# Altium integrated library Analog Devices Data Converters Digital-to-Analog Converters.IntLib: 2231 symbols (part 141 of 181)
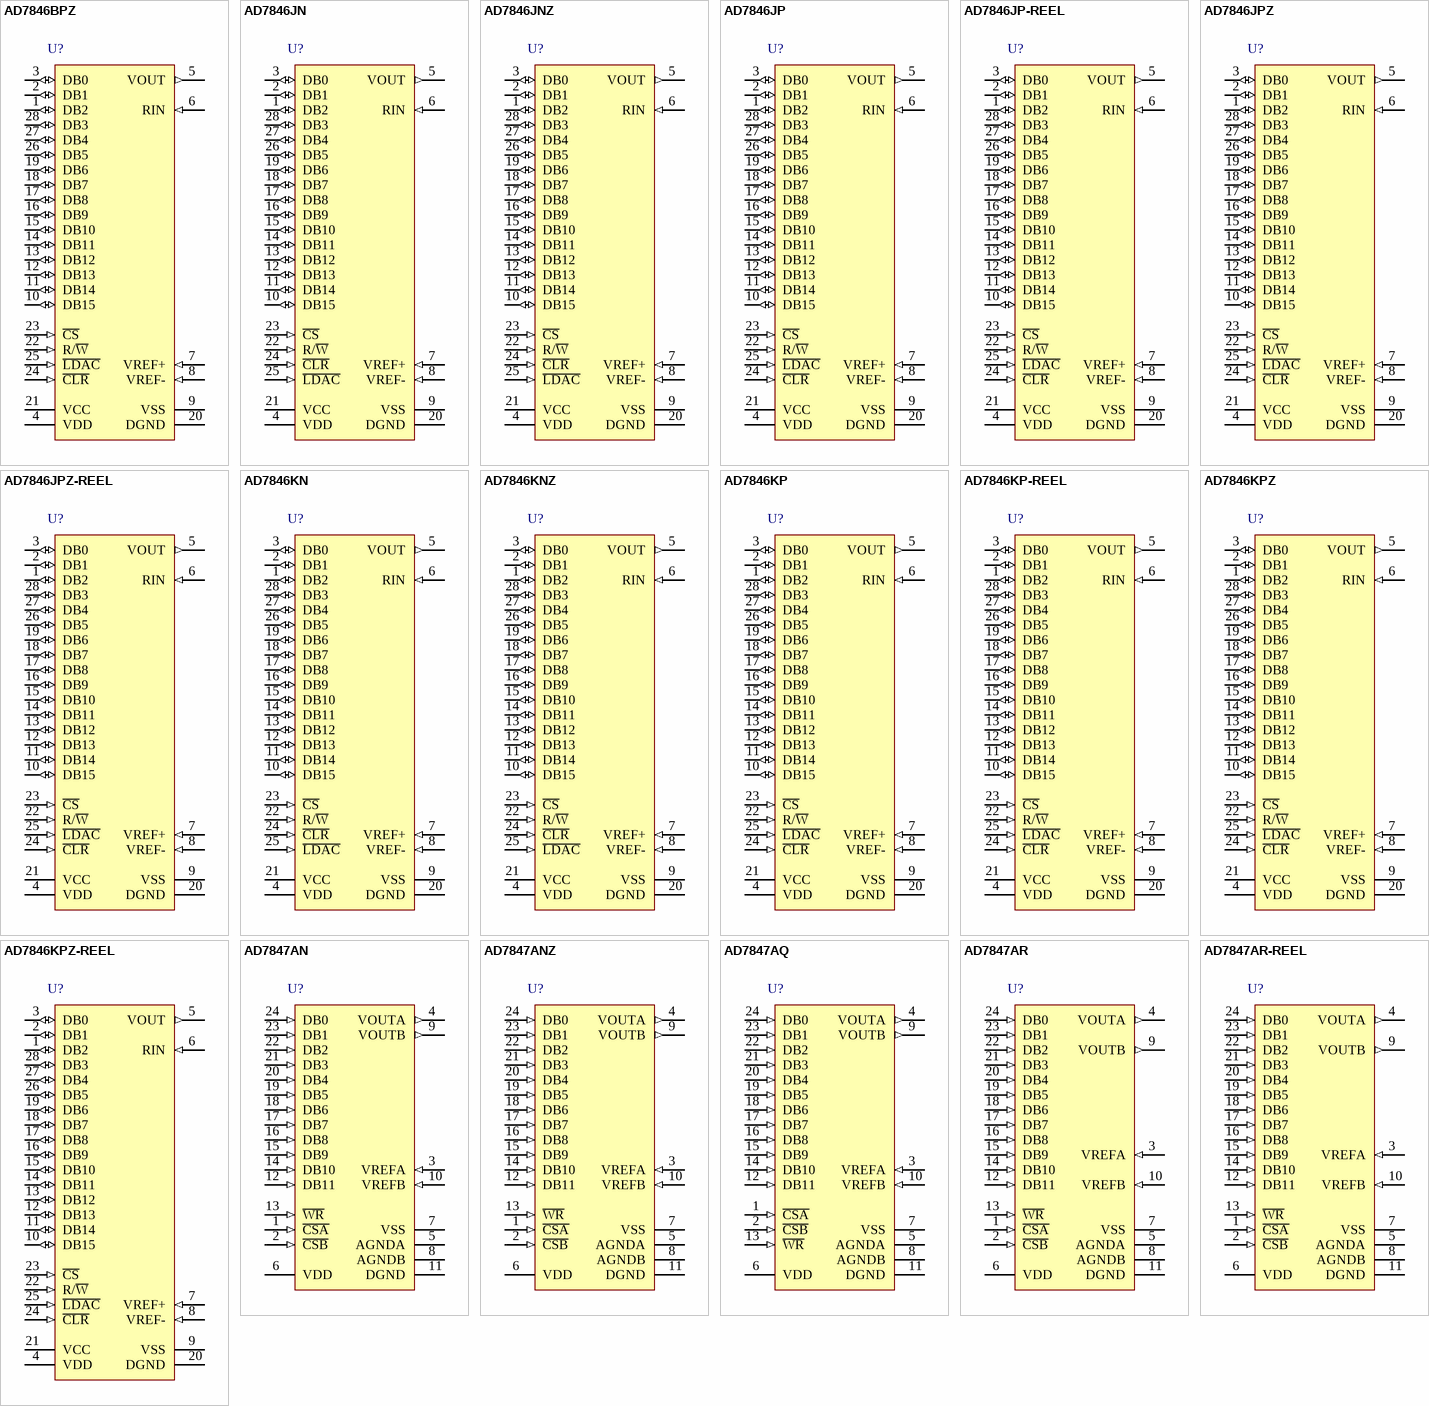
[diagram p254: symbols AD7846BPZ to AD7847AR-REEL]

## AD7846BPZ
designator U?
Single 16-Bit LC2MOS Voltage Output Digital-to-Analog Converter, -40 to +85 degC, P-28, Pb-Free, Tube; Generic Part Number: AD7846; Manufacturer: Analog Devices; PartNumber: AD7846BPZ; # DAC Outputs: 1; Max V+: 15.75V; Op Pwr Diss: 155mW; Resolution (Bits): 16; Settling Time: 7µs; Single Supply: No; DatasheetVersion: Rev.G; PackageVersion: 042508-A; PackageReference: P-28; PackageDescription: 28-Lead Plastic Leaded Chip Carrier [PLCC]; Supplier 1: Digi-Key; Supplier Part Number 1: AD7846BPZ-ND; Supplier 2: Mouser; Supplier Part Number 2: 584-AD7846BPZ; Packing: Tube; RoHS: Y; Mounting Technology: Surface Mount; Code_JEDEC: MO-047-AB; ComponentLink1Description: Manufacturer URL; ComponentLink1URL: http://www.analog.com/en/index.html; ComponentLink2Description: Datasheet; ComponentLink2URL: http://www.analog.com/static/imported-files/data_sheets/AD7846.pdf; ComponentLink3Description: Package Specification; ComponentLink3URL: http://www.analog.com/static/imported-files/packages/PKG_PDF/PLCC(P)/P_28.pdf; ComponentLink4Description: Product URL; ComponentLink4URL: http://www.analog.com/en/digital-to-analog-converters/da-converters/ad7846/products/product.html
footprint P-28_N (Leaded Chip Carrier, 28-Leads, Body 11.5x11.5mm, Pitch 1.27mm, IPC Medium Density)
footprint P-28_L (Leaded Chip Carrier, 28-Leads, Body 11.5x11.5mm, Pitch 1.27mm, IPC High Density)
footprint P-28_M (Leaded Chip Carrier, 28-Leads, Body 11.5x11.5mm, Pitch 1.27mm, IPC Low Density)
pins: 1 DB2 (io) "Data I/O.", 2 DB1 (io) "Data I/O.", 3 DB0 (io) "DB0 is LSB.", 4 VDD (power) "Positive Supply for Analog Circuitry. This is +15 V nominal.", 5 VOUT (out) "DAC Output Voltage.", 6 RIN (in) "Input to Summing Resistor of DAC Output Amplifier. This is used to select output voltage ranges. See Table 6.", 7 VREF+ (in) "VREF+ Input. The DAC is specified for VREF+ = +5 V.", 8 VREF- (in) "VREF- Input. For unipolar operation connect VREF- to 0 V, and for bipolar operation connect it to -5 V. The device is specified for both conditions.", 9 VSS (power) "Negative Supply for the Analog Circuitry. This is -15 V nominal", 10 DB15 (io) "DB15 is MSB.", 11 DB14 (io) "Data I/O.", 12 DB13 (io) "Data I/O.", 13 DB12 (io) "Data I/O.", 14 DB11 (io) "Data I/O.", 15 DB10 (io) "Data I/O.", 16 DB9 (io) "Data I/O.", 17 DB8 (io) "Data I/O.", 18 DB7 (io) "Data I/O.", 19 DB6 (io) "Data I/O.", 20 DGND (power) "Ground for Digital Circuitry.", 21 VCC (power) "Positive Supply for Digital Circuitry. This is +5 V nominal.", 22 R/~{W} (in) "R/W\ Input. This pin can be used to load data to the DAC or to read back the DAC latch contents.", 23 ~{CS} (in) "Chip Select Input. This pin selects the device.", 24 ~{CLR} (in) "Clear Input. The DAC can be cleared to 000...000 or 100...000. See Table 7.", 25 ~{LDAC} (in) "Asynchronous Load Input to DAC.", 26 DB5 (io) "Data I/O.", 27 DB4 (io) "Data I/O.", 28 DB3 (io) "Data I/O."

## AD7846JN
designator U?
Single 16-Bit LC2MOS Voltage Output Digital-to-Analog Converter, 0 to +70 degC, N-28-2, Tube; Generic Part Number: AD7846; Manufacturer: Analog Devices; PartNumber: AD7846JN; # DAC Outputs: 1; Max V+: 15.75V; Op Pwr Diss: 155mW; Resolution (Bits): 16; Settling Time: 7µs; Single Supply: No; DatasheetVersion: Rev.G; PackageVersion: 071006-A; PackageReference: N-28-2; PackageDescription: 28-Lead Plastic Dual In-Line Package [PDIP]; Supplier 1: Digi-Key; Supplier Part Number 1: AD7846JN-ND; Supplier 2: Mouser; Supplier Part Number 2: 584-AD7846JN; Packing: Tube; RoHS: N; Mounting Technology: Through Hole; Code_JEDEC: MS-011; ComponentLink1Description: Manufacturer URL; ComponentLink1URL: http://www.analog.com/en/index.html; ComponentLink2Description: Datasheet; ComponentLink2URL: http://www.analog.com/static/imported-files/data_sheets/AD7846.pdf; ComponentLink3Description: Package Specification; ComponentLink3URL: http://www.analog.com/static/imported-files/packages/50849324123784N_28_2.pdf; ComponentLink4Description: Product URL; ComponentLink4URL: http://www.analog.com/en/digital-to-analog-converters/da-converters/ad7846/products/product.html
footprint N-28-2 (DIP, 28-Leads, Row Spacing 15.55mm, Pitch 2.54mm, Body 37.4x13.5mm)
pins: 1 DB2 (io) "Data I/O.", 2 DB1 (io) "Data I/O.", 3 DB0 (io) "Data I/O. DB0 is LSB.", 4 VDD (power) "Positive Supply for Analog Circuitry. This is +15 V nominal.", 5 VOUT (out) "DAC Output Voltage.", 6 RIN (in) "Input to Summing Resistor of DAC Output Amplifier. This is used to select output voltage ranges. See Table 6.", 7 VREF+ (in) "VREF+ Input. The DAC is specified for VREF+ = +5 V.", 8 VREF- (in) "VREF- Input. For unipolar operation connect VREF- to 0 V, and for bipolar operation connect it to -5 V. The device is specified for both conditions.", 9 VSS (power) "Negative Supply for the Analog Circuitry. This is -15 V nominal.", 10 DB15 (io) "Data I/O. DB0 is LSB.", 11 DB14 (io) "Data I/O.", 12 DB13 (io) "Data I/O.", 13 DB12 (io) "Data I/O.", 14 DB11 (io) "Data I/O.", 15 DB10 (io) "Data I/O.", 16 DB9 (io) "Data I/O.", 17 DB8 (io) "Data I/O.", 18 DB7 (io) "Data I/O.", 19 DB6 (io) "Data I/O.", 20 DGND (power) "Ground for Digital Circuitry.", 21 VCC (power) "Positive Supply for Digital Circuitry. This is +5 V nominal.", 22 R/~{W} (in) "R/W\ Input. This pin can be used to load data to the DAC or to read back the DAC latch contents.", 23 ~{CS} (in) "Chip Select Input. This pin selects the device.", 24 ~{CLR} (in) "Clear Input. The DAC can be cleared to 000...000 or 100...000. See Table 7.", 25 ~{LDAC} (in) "Asynchronous Load Input to DAC.", 26 DB5 (io) "Data I/O.", 27 DB4 (io) "Data I/O.", 28 DB3 (io) "Data I/O."

## AD7846JNZ
designator U?
Single 16-Bit LC2MOS Voltage Output Digital-to-Analog Converter, 0 to +70 degC, N-28-2, Pb-Free, Tube; Generic Part Number: AD7846; Manufacturer: Analog Devices; PartNumber: AD7846JNZ; # DAC Outputs: 1; Max V+: 15.75V; Op Pwr Diss: 155mW; Resolution (Bits): 16; Settling Time: 7µs; Single Supply: No; DatasheetVersion: Rev.G; PackageVersion: 071006-A; PackageReference: N-28-2; PackageDescription: 28-Lead Plastic Dual In-Line Package [PDIP]; Supplier 1: Digi-Key; Supplier Part Number 1: AD7846JNZ-ND; Supplier 2: Farnell; Supplier Part Number 2: 1438625; Supplier 3: Newark; Supplier Part Number 3: 15P0885; Supplier 4: Newark; Supplier Part Number 4: 59K5657; Supplier 5: Mouser; Supplier Part Number 5: 584-AD7846JNZ; Packing: Tube; RoHS: Y; Mounting Technology: Through Hole; Code_JEDEC: MS-011; ComponentLink1Description: Manufacturer URL; ComponentLink1URL: http://www.analog.com/en/index.html; ComponentLink2Description: Datasheet; ComponentLink2URL: http://www.analog.com/static/imported-files/data_sheets/AD7846.pdf; ComponentLink3Description: Package Specification; ComponentLink3URL: http://www.analog.com/static/imported-files/packages/50849324123784N_28_2.pdf; ComponentLink4Description: Product URL; ComponentLink4URL: http://www.analog.com/en/digital-to-analog-converters/da-converters/ad7846/products/product.html
footprint N-28-2 (DIP, 28-Leads, Row Spacing 15.55mm, Pitch 2.54mm, Body 37.4x13.5mm)
pins: 1 DB2 (io) "Data I/O.", 2 DB1 (io) "Data I/O.", 3 DB0 (io) "Data I/O. DB0 is LSB.", 4 VDD (power) "Positive Supply for Analog Circuitry. This is +15 V nominal.", 5 VOUT (out) "DAC Output Voltage.", 6 RIN (in) "Input to Summing Resistor of DAC Output Amplifier. This is used to select output voltage ranges. See Table 6.", 7 VREF+ (in) "VREF+ Input. The DAC is specified for VREF+ = +5 V.", 8 VREF- (in) "VREF- Input. For unipolar operation connect VREF- to 0 V, and for bipolar operation connect it to -5 V. The device is specified for both conditions.", 9 VSS (power) "Negative Supply for the Analog Circuitry. This is -15 V nominal.", 10 DB15 (io) "Data I/O. DB0 is LSB.", 11 DB14 (io) "Data I/O.", 12 DB13 (io) "Data I/O.", 13 DB12 (io) "Data I/O.", 14 DB11 (io) "Data I/O.", 15 DB10 (io) "Data I/O.", 16 DB9 (io) "Data I/O.", 17 DB8 (io) "Data I/O.", 18 DB7 (io) "Data I/O.", 19 DB6 (io) "Data I/O.", 20 DGND (power) "Ground for Digital Circuitry.", 21 VCC (power) "Positive Supply for Digital Circuitry. This is +5 V nominal.", 22 R/~{W} (in) "R/W\ Input. This pin can be used to load data to the DAC or to read back the DAC latch contents.", 23 ~{CS} (in) "Chip Select Input. This pin selects the device.", 24 ~{CLR} (in) "Clear Input. The DAC can be cleared to 000...000 or 100...000. See Table 7.", 25 ~{LDAC} (in) "Asynchronous Load Input to DAC.", 26 DB5 (io) "Data I/O.", 27 DB4 (io) "Data I/O.", 28 DB3 (io) "Data I/O."

## AD7846JP
designator U?
Single 16-Bit LC2MOS Voltage Output Digital-to-Analog Converter, 0 to +70 degC, P-28, Tube; Generic Part Number: AD7846; Manufacturer: Analog Devices; PartNumber: AD7846JP; # DAC Outputs: 1; Max V+: 15.75V; Op Pwr Diss: 155mW; Resolution (Bits): 16; Settling Time: 7µs; Single Supply: No; DatasheetVersion: Rev.G; PackageVersion: 042508-A; PackageReference: P-28; PackageDescription: 28-Lead Plastic Leaded Chip Carrier [PLCC]; Supplier 1: Digi-Key; Supplier Part Number 1: AD7846JP-ND; Supplier 2: Newark; Supplier Part Number 2: 66F5886; Supplier 3: Mouser; Supplier Part Number 3: 584-AD7846JP; Packing: Tube; RoHS: N; Mounting Technology: Surface Mount; Code_JEDEC: MO-047-AB; ComponentLink1Description: Manufacturer URL; ComponentLink1URL: http://www.analog.com/en/index.html; ComponentLink2Description: Datasheet; ComponentLink2URL: http://www.analog.com/static/imported-files/data_sheets/AD7846.pdf; ComponentLink3Description: Package Specification; ComponentLink3URL: http://www.analog.com/static/imported-files/packages/PKG_PDF/PLCC(P)/P_28.pdf; ComponentLink4Description: Product URL; ComponentLink4URL: http://www.analog.com/en/digital-to-analog-converters/da-converters/ad7846/products/product.html
footprint P-28_N (Leaded Chip Carrier, 28-Leads, Body 11.5x11.5mm, Pitch 1.27mm, IPC Medium Density)
footprint P-28_L (Leaded Chip Carrier, 28-Leads, Body 11.5x11.5mm, Pitch 1.27mm, IPC High Density)
footprint P-28_M (Leaded Chip Carrier, 28-Leads, Body 11.5x11.5mm, Pitch 1.27mm, IPC Low Density)
pins: 1 DB2 (io) "Data I/O.", 2 DB1 (io) "Data I/O.", 3 DB0 (io) "DB0 is LSB.", 4 VDD (power) "Positive Supply for Analog Circuitry. This is +15 V nominal.", 5 VOUT (out) "DAC Output Voltage.", 6 RIN (in) "Input to Summing Resistor of DAC Output Amplifier. This is used to select output voltage ranges. See Table 6.", 7 VREF+ (in) "VREF+ Input. The DAC is specified for VREF+ = +5 V.", 8 VREF- (in) "VREF- Input. For unipolar operation connect VREF- to 0 V, and for bipolar operation connect it to -5 V. The device is specified for both conditions.", 9 VSS (power) "Negative Supply for the Analog Circuitry. This is -15 V nominal", 10 DB15 (io) "DB15 is MSB.", 11 DB14 (io) "Data I/O.", 12 DB13 (io) "Data I/O.", 13 DB12 (io) "Data I/O.", 14 DB11 (io) "Data I/O.", 15 DB10 (io) "Data I/O.", 16 DB9 (io) "Data I/O.", 17 DB8 (io) "Data I/O.", 18 DB7 (io) "Data I/O.", 19 DB6 (io) "Data I/O.", 20 DGND (power) "Ground for Digital Circuitry.", 21 VCC (power) "Positive Supply for Digital Circuitry. This is +5 V nominal.", 22 R/~{W} (in) "R/W\ Input. This pin can be used to load data to the DAC or to read back the DAC latch contents.", 23 ~{CS} (in) "Chip Select Input. This pin selects the device.", 24 ~{CLR} (in) "Clear Input. The DAC can be cleared to 000...000 or 100...000. See Table 7.", 25 ~{LDAC} (in) "Asynchronous Load Input to DAC.", 26 DB5 (io) "Data I/O.", 27 DB4 (io) "Data I/O.", 28 DB3 (io) "Data I/O."

## AD7846JP-REEL
designator U?
Single 16-Bit LC2MOS Voltage Output Digital-to-Analog Converter, 0 to +70 degC, P-28, Reel; Generic Part Number: AD7846; Manufacturer: Analog Devices; PartNumber: AD7846JP-REEL; # DAC Outputs: 1; Max V+: 15.75V; Op Pwr Diss: 155mW; Resolution (Bits): 16; Settling Time: 7µs; Single Supply: No; DatasheetVersion: Rev.G; PackageVersion: 042508-A; PackageReference: P-28; PackageDescription: 28-Lead Plastic Leaded Chip Carrier [PLCC]; Supplier 1: Digi-Key; Supplier Part Number 1: AD7846JP-REEL-ND; Supplier 2: Mouser; Supplier Part Number 2: 584-AD7846JP-R; Packing: Reel; RoHS: N; Mounting Technology: Surface Mount; Code_JEDEC: MO-047-AB; ComponentLink1Description: Manufacturer URL; ComponentLink1URL: http://www.analog.com/en/index.html; ComponentLink2Description: Datasheet; ComponentLink2URL: http://www.analog.com/static/imported-files/data_sheets/AD7846.pdf; ComponentLink3Description: Package Specification; ComponentLink3URL: http://www.analog.com/static/imported-files/packages/PKG_PDF/PLCC(P)/P_28.pdf; ComponentLink4Description: Product URL; ComponentLink4URL: http://www.analog.com/en/digital-to-analog-converters/da-converters/ad7846/products/product.html
footprint P-28_N (Leaded Chip Carrier, 28-Leads, Body 11.5x11.5mm, Pitch 1.27mm, IPC Medium Density)
footprint P-28_L (Leaded Chip Carrier, 28-Leads, Body 11.5x11.5mm, Pitch 1.27mm, IPC High Density)
footprint P-28_M (Leaded Chip Carrier, 28-Leads, Body 11.5x11.5mm, Pitch 1.27mm, IPC Low Density)
pins: 1 DB2 (io) "Data I/O.", 2 DB1 (io) "Data I/O.", 3 DB0 (io) "DB0 is LSB.", 4 VDD (power) "Positive Supply for Analog Circuitry. This is +15 V nominal.", 5 VOUT (out) "DAC Output Voltage.", 6 RIN (in) "Input to Summing Resistor of DAC Output Amplifier. This is used to select output voltage ranges. See Table 6.", 7 VREF+ (in) "VREF+ Input. The DAC is specified for VREF+ = +5 V.", 8 VREF- (in) "VREF- Input. For unipolar operation connect VREF- to 0 V, and for bipolar operation connect it to -5 V. The device is specified for both conditions.", 9 VSS (power) "Negative Supply for the Analog Circuitry. This is -15 V nominal", 10 DB15 (io) "DB15 is MSB.", 11 DB14 (io) "Data I/O.", 12 DB13 (io) "Data I/O.", 13 DB12 (io) "Data I/O.", 14 DB11 (io) "Data I/O.", 15 DB10 (io) "Data I/O.", 16 DB9 (io) "Data I/O.", 17 DB8 (io) "Data I/O.", 18 DB7 (io) "Data I/O.", 19 DB6 (io) "Data I/O.", 20 DGND (power) "Ground for Digital Circuitry.", 21 VCC (power) "Positive Supply for Digital Circuitry. This is +5 V nominal.", 22 R/~{W} (in) "R/W\ Input. This pin can be used to load data to the DAC or to read back the DAC latch contents.", 23 ~{CS} (in) "Chip Select Input. This pin selects the device.", 24 ~{CLR} (in) "Clear Input. The DAC can be cleared to 000...000 or 100...000. See Table 7.", 25 ~{LDAC} (in) "Asynchronous Load Input to DAC.", 26 DB5 (io) "Data I/O.", 27 DB4 (io) "Data I/O.", 28 DB3 (io) "Data I/O."

## AD7846JPZ
designator U?
Single 16-Bit LC2MOS Voltage Output Digital-to-Analog Converter, 0 to +70 degC, P-28, Pb-Free, Tube; Generic Part Number: AD7846; Manufacturer: Analog Devices; PartNumber: AD7846JPZ; # DAC Outputs: 1; Max V+: 15.75V; Op Pwr Diss: 155mW; Resolution (Bits): 16; Settling Time: 7µs; Single Supply: No; DatasheetVersion: Rev.G; PackageVersion: 042508-A; PackageReference: P-28; PackageDescription: 28-Lead Plastic Leaded Chip Carrier [PLCC]; Supplier 1: Digi-Key; Supplier Part Number 1: AD7846JPZ-ND; Supplier 2: Mouser; Supplier Part Number 2: 584-AD7846JPZ; Packing: Tube; RoHS: Y; Mounting Technology: Surface Mount; Code_JEDEC: MO-047-AB; ComponentLink1Description: Manufacturer URL; ComponentLink1URL: http://www.analog.com/en/index.html; ComponentLink2Description: Datasheet; ComponentLink2URL: http://www.analog.com/static/imported-files/data_sheets/AD7846.pdf; ComponentLink3Description: Package Specification; ComponentLink3URL: http://www.analog.com/static/imported-files/packages/PKG_PDF/PLCC(P)/P_28.pdf; ComponentLink4Description: Product URL; ComponentLink4URL: http://www.analog.com/en/digital-to-analog-converters/da-converters/ad7846/products/product.html
footprint P-28_N (Leaded Chip Carrier, 28-Leads, Body 11.5x11.5mm, Pitch 1.27mm, IPC Medium Density)
footprint P-28_L (Leaded Chip Carrier, 28-Leads, Body 11.5x11.5mm, Pitch 1.27mm, IPC High Density)
footprint P-28_M (Leaded Chip Carrier, 28-Leads, Body 11.5x11.5mm, Pitch 1.27mm, IPC Low Density)
pins: 1 DB2 (io) "Data I/O.", 2 DB1 (io) "Data I/O.", 3 DB0 (io) "DB0 is LSB.", 4 VDD (power) "Positive Supply for Analog Circuitry. This is +15 V nominal.", 5 VOUT (out) "DAC Output Voltage.", 6 RIN (in) "Input to Summing Resistor of DAC Output Amplifier. This is used to select output voltage ranges. See Table 6.", 7 VREF+ (in) "VREF+ Input. The DAC is specified for VREF+ = +5 V.", 8 VREF- (in) "VREF- Input. For unipolar operation connect VREF- to 0 V, and for bipolar operation connect it to -5 V. The device is specified for both conditions.", 9 VSS (power) "Negative Supply for the Analog Circuitry. This is -15 V nominal", 10 DB15 (io) "DB15 is MSB.", 11 DB14 (io) "Data I/O.", 12 DB13 (io) "Data I/O.", 13 DB12 (io) "Data I/O.", 14 DB11 (io) "Data I/O.", 15 DB10 (io) "Data I/O.", 16 DB9 (io) "Data I/O.", 17 DB8 (io) "Data I/O.", 18 DB7 (io) "Data I/O.", 19 DB6 (io) "Data I/O.", 20 DGND (power) "Ground for Digital Circuitry.", 21 VCC (power) "Positive Supply for Digital Circuitry. This is +5 V nominal.", 22 R/~{W} (in) "R/W\ Input. This pin can be used to load data to the DAC or to read back the DAC latch contents.", 23 ~{CS} (in) "Chip Select Input. This pin selects the device.", 24 ~{CLR} (in) "Clear Input. The DAC can be cleared to 000...000 or 100...000. See Table 7.", 25 ~{LDAC} (in) "Asynchronous Load Input to DAC.", 26 DB5 (io) "Data I/O.", 27 DB4 (io) "Data I/O.", 28 DB3 (io) "Data I/O."

## AD7846JPZ-REEL
designator U?
Single 16-Bit LC2MOS Voltage Output Digital-to-Analog Converter, 0 to +70 degC, P-28, Pb-Free, Reel; Generic Part Number: AD7846; Manufacturer: Analog Devices; PartNumber: AD7846JPZ-REEL; # DAC Outputs: 1; Max V+: 15.75V; Op Pwr Diss: 155mW; Resolution (Bits): 16; Settling Time: 7µs; Single Supply: No; DatasheetVersion: Rev.G; PackageVersion: 042508-A; PackageReference: P-28; PackageDescription: 28-Lead Plastic Leaded Chip Carrier [PLCC]; Supplier 1: Digi-Key; Supplier Part Number 1: AD7846JPZ-REEL-ND; Supplier 2: Mouser; Supplier Part Number 2: 584-AD7846JPZ-R; Packing: Reel; RoHS: Y; Mounting Technology: Surface Mount; Code_JEDEC: MO-047-AB; ComponentLink1Description: Manufacturer URL; ComponentLink1URL: http://www.analog.com/en/index.html; ComponentLink2Description: Datasheet; ComponentLink2URL: http://www.analog.com/static/imported-files/data_sheets/AD7846.pdf; ComponentLink3Description: Package Specification; ComponentLink3URL: http://www.analog.com/static/imported-files/packages/PKG_PDF/PLCC(P)/P_28.pdf; ComponentLink4Description: Product URL; ComponentLink4URL: http://www.analog.com/en/digital-to-analog-converters/da-converters/ad7846/products/product.html
footprint P-28_N (Leaded Chip Carrier, 28-Leads, Body 11.5x11.5mm, Pitch 1.27mm, IPC Medium Density)
footprint P-28_L (Leaded Chip Carrier, 28-Leads, Body 11.5x11.5mm, Pitch 1.27mm, IPC High Density)
footprint P-28_M (Leaded Chip Carrier, 28-Leads, Body 11.5x11.5mm, Pitch 1.27mm, IPC Low Density)
pins: 1 DB2 (io) "Data I/O.", 2 DB1 (io) "Data I/O.", 3 DB0 (io) "DB0 is LSB.", 4 VDD (power) "Positive Supply for Analog Circuitry. This is +15 V nominal.", 5 VOUT (out) "DAC Output Voltage.", 6 RIN (in) "Input to Summing Resistor of DAC Output Amplifier. This is used to select output voltage ranges. See Table 6.", 7 VREF+ (in) "VREF+ Input. The DAC is specified for VREF+ = +5 V.", 8 VREF- (in) "VREF- Input. For unipolar operation connect VREF- to 0 V, and for bipolar operation connect it to -5 V. The device is specified for both conditions.", 9 VSS (power) "Negative Supply for the Analog Circuitry. This is -15 V nominal", 10 DB15 (io) "DB15 is MSB.", 11 DB14 (io) "Data I/O.", 12 DB13 (io) "Data I/O.", 13 DB12 (io) "Data I/O.", 14 DB11 (io) "Data I/O.", 15 DB10 (io) "Data I/O.", 16 DB9 (io) "Data I/O.", 17 DB8 (io) "Data I/O.", 18 DB7 (io) "Data I/O.", 19 DB6 (io) "Data I/O.", 20 DGND (power) "Ground for Digital Circuitry.", 21 VCC (power) "Positive Supply for Digital Circuitry. This is +5 V nominal.", 22 R/~{W} (in) "R/W\ Input. This pin can be used to load data to the DAC or to read back the DAC latch contents.", 23 ~{CS} (in) "Chip Select Input. This pin selects the device.", 24 ~{CLR} (in) "Clear Input. The DAC can be cleared to 000...000 or 100...000. See Table 7.", 25 ~{LDAC} (in) "Asynchronous Load Input to DAC.", 26 DB5 (io) "Data I/O.", 27 DB4 (io) "Data I/O.", 28 DB3 (io) "Data I/O."

## AD7846KN
designator U?
Single 16-Bit LC2MOS Voltage Output Digital-to-Analog Converter, 0 to +70 degC, N-28-2, Tube; Generic Part Number: AD7846; Manufacturer: Analog Devices; PartNumber: AD7846KN; # DAC Outputs: 1; Max V+: 15.75V; Op Pwr Diss: 155mW; Resolution (Bits): 16; Settling Time: 7µs; Single Supply: No; DatasheetVersion: Rev.G; PackageVersion: 071006-A; PackageReference: N-28-2; PackageDescription: 28-Lead Plastic Dual In-Line Package [PDIP]; Supplier 1: Digi-Key; Supplier Part Number 1: AD7846KN-ND; Supplier 2: Mouser; Supplier Part Number 2: 584-AD7846KN; Packing: Tube; RoHS: N; Mounting Technology: Through Hole; Code_JEDEC: MS-011; ComponentLink1Description: Manufacturer URL; ComponentLink1URL: http://www.analog.com/en/index.html; ComponentLink2Description: Datasheet; ComponentLink2URL: http://www.analog.com/static/imported-files/data_sheets/AD7846.pdf; ComponentLink3Description: Package Specification; ComponentLink3URL: http://www.analog.com/static/imported-files/packages/50849324123784N_28_2.pdf; ComponentLink4Description: Product URL; ComponentLink4URL: http://www.analog.com/en/digital-to-analog-converters/da-converters/ad7846/products/product.html
footprint N-28-2 (DIP, 28-Leads, Row Spacing 15.55mm, Pitch 2.54mm, Body 37.4x13.5mm)
pins: 1 DB2 (io) "Data I/O.", 2 DB1 (io) "Data I/O.", 3 DB0 (io) "Data I/O. DB0 is LSB.", 4 VDD (power) "Positive Supply for Analog Circuitry. This is +15 V nominal.", 5 VOUT (out) "DAC Output Voltage.", 6 RIN (in) "Input to Summing Resistor of DAC Output Amplifier. This is used to select output voltage ranges. See Table 6.", 7 VREF+ (in) "VREF+ Input. The DAC is specified for VREF+ = +5 V.", 8 VREF- (in) "VREF- Input. For unipolar operation connect VREF- to 0 V, and for bipolar operation connect it to -5 V. The device is specified for both conditions.", 9 VSS (power) "Negative Supply for the Analog Circuitry. This is -15 V nominal.", 10 DB15 (io) "Data I/O. DB0 is LSB.", 11 DB14 (io) "Data I/O.", 12 DB13 (io) "Data I/O.", 13 DB12 (io) "Data I/O.", 14 DB11 (io) "Data I/O.", 15 DB10 (io) "Data I/O.", 16 DB9 (io) "Data I/O.", 17 DB8 (io) "Data I/O.", 18 DB7 (io) "Data I/O.", 19 DB6 (io) "Data I/O.", 20 DGND (power) "Ground for Digital Circuitry.", 21 VCC (power) "Positive Supply for Digital Circuitry. This is +5 V nominal.", 22 R/~{W} (in) "R/W\ Input. This pin can be used to load data to the DAC or to read back the DAC latch contents.", 23 ~{CS} (in) "Chip Select Input. This pin selects the device.", 24 ~{CLR} (in) "Clear Input. The DAC can be cleared to 000...000 or 100...000. See Table 7.", 25 ~{LDAC} (in) "Asynchronous Load Input to DAC.", 26 DB5 (io) "Data I/O.", 27 DB4 (io) "Data I/O.", 28 DB3 (io) "Data I/O."

## AD7846KNZ
designator U?
Single 16-Bit LC2MOS Voltage Output Digital-to-Analog Converter, 0 to +70 degC, N-28-2, Pb-Free, Tube; Generic Part Number: AD7846; Manufacturer: Analog Devices; PartNumber: AD7846KNZ; # DAC Outputs: 1; Max V+: 15.75V; Op Pwr Diss: 155mW; Resolution (Bits): 16; Settling Time: 7µs; Single Supply: No; DatasheetVersion: Rev.G; PackageVersion: 071006-A; PackageReference: N-28-2; PackageDescription: 28-Lead Plastic Dual In-Line Package [PDIP]; Supplier 1: Digi-Key; Supplier Part Number 1: AD7846KNZ-ND; Supplier 2: Farnell; Supplier Part Number 2: 1438626; Supplier 3: Newark; Supplier Part Number 3: 59K5658; Supplier 4: Mouser; Supplier Part Number 4: 584-AD7846KNZ; Packing: Tube; RoHS: Y; Mounting Technology: Through Hole; Code_JEDEC: MS-011; ComponentLink1Description: Manufacturer URL; ComponentLink1URL: http://www.analog.com/en/index.html; ComponentLink2Description: Datasheet; ComponentLink2URL: http://www.analog.com/static/imported-files/data_sheets/AD7846.pdf; ComponentLink3Description: Package Specification; ComponentLink3URL: http://www.analog.com/static/imported-files/packages/50849324123784N_28_2.pdf; ComponentLink4Description: Product URL; ComponentLink4URL: http://www.analog.com/en/digital-to-analog-converters/da-converters/ad7846/products/product.html
footprint N-28-2 (DIP, 28-Leads, Row Spacing 15.55mm, Pitch 2.54mm, Body 37.4x13.5mm)
pins: 1 DB2 (io) "Data I/O.", 2 DB1 (io) "Data I/O.", 3 DB0 (io) "Data I/O. DB0 is LSB.", 4 VDD (power) "Positive Supply for Analog Circuitry. This is +15 V nominal.", 5 VOUT (out) "DAC Output Voltage.", 6 RIN (in) "Input to Summing Resistor of DAC Output Amplifier. This is used to select output voltage ranges. See Table 6.", 7 VREF+ (in) "VREF+ Input. The DAC is specified for VREF+ = +5 V.", 8 VREF- (in) "VREF- Input. For unipolar operation connect VREF- to 0 V, and for bipolar operation connect it to -5 V. The device is specified for both conditions.", 9 VSS (power) "Negative Supply for the Analog Circuitry. This is -15 V nominal.", 10 DB15 (io) "Data I/O. DB0 is LSB.", 11 DB14 (io) "Data I/O.", 12 DB13 (io) "Data I/O.", 13 DB12 (io) "Data I/O.", 14 DB11 (io) "Data I/O.", 15 DB10 (io) "Data I/O.", 16 DB9 (io) "Data I/O.", 17 DB8 (io) "Data I/O.", 18 DB7 (io) "Data I/O.", 19 DB6 (io) "Data I/O.", 20 DGND (power) "Ground for Digital Circuitry.", 21 VCC (power) "Positive Supply for Digital Circuitry. This is +5 V nominal.", 22 R/~{W} (in) "R/W\ Input. This pin can be used to load data to the DAC or to read back the DAC latch contents.", 23 ~{CS} (in) "Chip Select Input. This pin selects the device.", 24 ~{CLR} (in) "Clear Input. The DAC can be cleared to 000...000 or 100...000. See Table 7.", 25 ~{LDAC} (in) "Asynchronous Load Input to DAC.", 26 DB5 (io) "Data I/O.", 27 DB4 (io) "Data I/O.", 28 DB3 (io) "Data I/O."

## AD7846KP
designator U?
Single 16-Bit LC2MOS Voltage Output Digital-to-Analog Converter, 0 to +70 degC, P-28, Tube; Generic Part Number: AD7846; Manufacturer: Analog Devices; PartNumber: AD7846KP; # DAC Outputs: 1; Max V+: 15.75V; Op Pwr Diss: 155mW; Resolution (Bits): 16; Settling Time: 7µs; Single Supply: No; DatasheetVersion: Rev.G; PackageVersion: 042508-A; PackageReference: P-28; PackageDescription: 28-Lead Plastic Leaded Chip Carrier [PLCC]; Supplier 1: Digi-Key; Supplier Part Number 1: AD7846KP-ND; Supplier 2: Mouser; Supplier Part Number 2: 584-AD7846KP; Packing: Tube; RoHS: N; Mounting Technology: Surface Mount; Code_JEDEC: MO-047-AB; ComponentLink1Description: Manufacturer URL; ComponentLink1URL: http://www.analog.com/en/index.html; ComponentLink2Description: Datasheet; ComponentLink2URL: http://www.analog.com/static/imported-files/data_sheets/AD7846.pdf; ComponentLink3Description: Package Specification; ComponentLink3URL: http://www.analog.com/static/imported-files/packages/PKG_PDF/PLCC(P)/P_28.pdf; ComponentLink4Description: Product URL; ComponentLink4URL: http://www.analog.com/en/digital-to-analog-converters/da-converters/ad7846/products/product.html
footprint P-28_N (Leaded Chip Carrier, 28-Leads, Body 11.5x11.5mm, Pitch 1.27mm, IPC Medium Density)
footprint P-28_L (Leaded Chip Carrier, 28-Leads, Body 11.5x11.5mm, Pitch 1.27mm, IPC High Density)
footprint P-28_M (Leaded Chip Carrier, 28-Leads, Body 11.5x11.5mm, Pitch 1.27mm, IPC Low Density)
pins: 1 DB2 (io) "Data I/O.", 2 DB1 (io) "Data I/O.", 3 DB0 (io) "DB0 is LSB.", 4 VDD (power) "Positive Supply for Analog Circuitry. This is +15 V nominal.", 5 VOUT (out) "DAC Output Voltage.", 6 RIN (in) "Input to Summing Resistor of DAC Output Amplifier. This is used to select output voltage ranges. See Table 6.", 7 VREF+ (in) "VREF+ Input. The DAC is specified for VREF+ = +5 V.", 8 VREF- (in) "VREF- Input. For unipolar operation connect VREF- to 0 V, and for bipolar operation connect it to -5 V. The device is specified for both conditions.", 9 VSS (power) "Negative Supply for the Analog Circuitry. This is -15 V nominal", 10 DB15 (io) "DB15 is MSB.", 11 DB14 (io) "Data I/O.", 12 DB13 (io) "Data I/O.", 13 DB12 (io) "Data I/O.", 14 DB11 (io) "Data I/O.", 15 DB10 (io) "Data I/O.", 16 DB9 (io) "Data I/O.", 17 DB8 (io) "Data I/O.", 18 DB7 (io) "Data I/O.", 19 DB6 (io) "Data I/O.", 20 DGND (power) "Ground for Digital Circuitry.", 21 VCC (power) "Positive Supply for Digital Circuitry. This is +5 V nominal.", 22 R/~{W} (in) "R/W\ Input. This pin can be used to load data to the DAC or to read back the DAC latch contents.", 23 ~{CS} (in) "Chip Select Input. This pin selects the device.", 24 ~{CLR} (in) "Clear Input. The DAC can be cleared to 000...000 or 100...000. See Table 7.", 25 ~{LDAC} (in) "Asynchronous Load Input to DAC.", 26 DB5 (io) "Data I/O.", 27 DB4 (io) "Data I/O.", 28 DB3 (io) "Data I/O."

## AD7846KP-REEL
designator U?
Single 16-Bit LC2MOS Voltage Output Digital-to-Analog Converter, 0 to +70 degC, P-28, Reel; Generic Part Number: AD7846; Manufacturer: Analog Devices; PartNumber: AD7846KP-REEL; # DAC Outputs: 1; Max V+: 15.75V; Op Pwr Diss: 155mW; Resolution (Bits): 16; Settling Time: 7µs; Single Supply: No; DatasheetVersion: Rev.G; PackageVersion: 042508-A; PackageReference: P-28; PackageDescription: 28-Lead Plastic Leaded Chip Carrier [PLCC]; Supplier 1: Mouser; Supplier Part Number 1: N/A; Packing: Reel; RoHS: N; Mounting Technology: Surface Mount; Code_JEDEC: MO-047-AB; ComponentLink1Description: Manufacturer URL; ComponentLink1URL: http://www.analog.com/en/index.html; ComponentLink2Description: Datasheet; ComponentLink2URL: http://www.analog.com/static/imported-files/data_sheets/AD7846.pdf; ComponentLink3Description: Package Specification; ComponentLink3URL: http://www.analog.com/static/imported-files/packages/PKG_PDF/PLCC(P)/P_28.pdf; ComponentLink4Description: Product URL; ComponentLink4URL: http://www.analog.com/en/digital-to-analog-converters/da-converters/ad7846/products/product.html
footprint P-28_N (Leaded Chip Carrier, 28-Leads, Body 11.5x11.5mm, Pitch 1.27mm, IPC Medium Density)
footprint P-28_L (Leaded Chip Carrier, 28-Leads, Body 11.5x11.5mm, Pitch 1.27mm, IPC High Density)
footprint P-28_M (Leaded Chip Carrier, 28-Leads, Body 11.5x11.5mm, Pitch 1.27mm, IPC Low Density)
pins: 1 DB2 (io) "Data I/O.", 2 DB1 (io) "Data I/O.", 3 DB0 (io) "DB0 is LSB.", 4 VDD (power) "Positive Supply for Analog Circuitry. This is +15 V nominal.", 5 VOUT (out) "DAC Output Voltage.", 6 RIN (in) "Input to Summing Resistor of DAC Output Amplifier. This is used to select output voltage ranges. See Table 6.", 7 VREF+ (in) "VREF+ Input. The DAC is specified for VREF+ = +5 V.", 8 VREF- (in) "VREF- Input. For unipolar operation connect VREF- to 0 V, and for bipolar operation connect it to -5 V. The device is specified for both conditions.", 9 VSS (power) "Negative Supply for the Analog Circuitry. This is -15 V nominal", 10 DB15 (io) "DB15 is MSB.", 11 DB14 (io) "Data I/O.", 12 DB13 (io) "Data I/O.", 13 DB12 (io) "Data I/O.", 14 DB11 (io) "Data I/O.", 15 DB10 (io) "Data I/O.", 16 DB9 (io) "Data I/O.", 17 DB8 (io) "Data I/O.", 18 DB7 (io) "Data I/O.", 19 DB6 (io) "Data I/O.", 20 DGND (power) "Ground for Digital Circuitry.", 21 VCC (power) "Positive Supply for Digital Circuitry. This is +5 V nominal.", 22 R/~{W} (in) "R/W\ Input. This pin can be used to load data to the DAC or to read back the DAC latch contents.", 23 ~{CS} (in) "Chip Select Input. This pin selects the device.", 24 ~{CLR} (in) "Clear Input. The DAC can be cleared to 000...000 or 100...000. See Table 7.", 25 ~{LDAC} (in) "Asynchronous Load Input to DAC.", 26 DB5 (io) "Data I/O.", 27 DB4 (io) "Data I/O.", 28 DB3 (io) "Data I/O."

## AD7846KPZ
designator U?
Single 16-Bit LC2MOS Voltage Output Digital-to-Analog Converter, 0 to +70 degC, P-28, Pb-Free, Tube; Generic Part Number: AD7846; Manufacturer: Analog Devices; PartNumber: AD7846KPZ; # DAC Outputs: 1; Max V+: 15.75V; Op Pwr Diss: 155mW; Resolution (Bits): 16; Settling Time: 7µs; Single Supply: No; DatasheetVersion: Rev.G; PackageVersion: 042508-A; PackageReference: P-28; PackageDescription: 28-Lead Plastic Leaded Chip Carrier [PLCC]; Supplier 1: Digi-Key; Supplier Part Number 1: AD7846KPZ-ND; Supplier 2: Newark; Supplier Part Number 2: 13M6205; Supplier 3: Mouser; Supplier Part Number 3: 584-AD7846KPZ; Packing: Tube; RoHS: Y; Mounting Technology: Surface Mount; Code_JEDEC: MO-047-AB; ComponentLink1Description: Manufacturer URL; ComponentLink1URL: http://www.analog.com/en/index.html; ComponentLink2Description: Datasheet; ComponentLink2URL: http://www.analog.com/static/imported-files/data_sheets/AD7846.pdf; ComponentLink3Description: Package Specification; ComponentLink3URL: http://www.analog.com/static/imported-files/packages/PKG_PDF/PLCC(P)/P_28.pdf; ComponentLink4Description: Product URL; ComponentLink4URL: http://www.analog.com/en/digital-to-analog-converters/da-converters/ad7846/products/product.html
footprint P-28_N (Leaded Chip Carrier, 28-Leads, Body 11.5x11.5mm, Pitch 1.27mm, IPC Medium Density)
footprint P-28_L (Leaded Chip Carrier, 28-Leads, Body 11.5x11.5mm, Pitch 1.27mm, IPC High Density)
footprint P-28_M (Leaded Chip Carrier, 28-Leads, Body 11.5x11.5mm, Pitch 1.27mm, IPC Low Density)
pins: 1 DB2 (io) "Data I/O.", 2 DB1 (io) "Data I/O.", 3 DB0 (io) "DB0 is LSB.", 4 VDD (power) "Positive Supply for Analog Circuitry. This is +15 V nominal.", 5 VOUT (out) "DAC Output Voltage.", 6 RIN (in) "Input to Summing Resistor of DAC Output Amplifier. This is used to select output voltage ranges. See Table 6.", 7 VREF+ (in) "VREF+ Input. The DAC is specified for VREF+ = +5 V.", 8 VREF- (in) "VREF- Input. For unipolar operation connect VREF- to 0 V, and for bipolar operation connect it to -5 V. The device is specified for both conditions.", 9 VSS (power) "Negative Supply for the Analog Circuitry. This is -15 V nominal", 10 DB15 (io) "DB15 is MSB.", 11 DB14 (io) "Data I/O.", 12 DB13 (io) "Data I/O.", 13 DB12 (io) "Data I/O.", 14 DB11 (io) "Data I/O.", 15 DB10 (io) "Data I/O.", 16 DB9 (io) "Data I/O.", 17 DB8 (io) "Data I/O.", 18 DB7 (io) "Data I/O.", 19 DB6 (io) "Data I/O.", 20 DGND (power) "Ground for Digital Circuitry.", 21 VCC (power) "Positive Supply for Digital Circuitry. This is +5 V nominal.", 22 R/~{W} (in) "R/W\ Input. This pin can be used to load data to the DAC or to read back the DAC latch contents.", 23 ~{CS} (in) "Chip Select Input. This pin selects the device.", 24 ~{CLR} (in) "Clear Input. The DAC can be cleared to 000...000 or 100...000. See Table 7.", 25 ~{LDAC} (in) "Asynchronous Load Input to DAC.", 26 DB5 (io) "Data I/O.", 27 DB4 (io) "Data I/O.", 28 DB3 (io) "Data I/O."

## AD7846KPZ-REEL
designator U?
Single 16-Bit LC2MOS Voltage Output Digital-to-Analog Converter, 0 to +70 degC, P-28, Pb-Free, Reel; Generic Part Number: AD7846; Manufacturer: Analog Devices; PartNumber: AD7846KPZ-REEL; # DAC Outputs: 1; Max V+: 15.75V; Op Pwr Diss: 155mW; Resolution (Bits): 16; Settling Time: 7µs; Single Supply: No; DatasheetVersion: Rev.G; PackageVersion: 042508-A; PackageReference: P-28; PackageDescription: 28-Lead Plastic Leaded Chip Carrier [PLCC]; Supplier 1: Digi-Key; Supplier Part Number 1: AD7846KPZ-REEL-ND; Supplier 2: Mouser; Supplier Part Number 2: 584-AD7846KPZ-R; Packing: Reel; RoHS: Y; Mounting Technology: Surface Mount; Code_JEDEC: MO-047-AB; ComponentLink1Description: Manufacturer URL; ComponentLink1URL: http://www.analog.com/en/index.html; ComponentLink2Description: Datasheet; ComponentLink2URL: http://www.analog.com/static/imported-files/data_sheets/AD7846.pdf; ComponentLink3Description: Package Specification; ComponentLink3URL: http://www.analog.com/static/imported-files/packages/PKG_PDF/PLCC(P)/P_28.pdf; ComponentLink4Description: Product URL; ComponentLink4URL: http://www.analog.com/en/digital-to-analog-converters/da-converters/ad7846/products/product.html
footprint P-28_N (Leaded Chip Carrier, 28-Leads, Body 11.5x11.5mm, Pitch 1.27mm, IPC Medium Density)
footprint P-28_L (Leaded Chip Carrier, 28-Leads, Body 11.5x11.5mm, Pitch 1.27mm, IPC High Density)
footprint P-28_M (Leaded Chip Carrier, 28-Leads, Body 11.5x11.5mm, Pitch 1.27mm, IPC Low Density)
pins: 1 DB2 (io) "Data I/O.", 2 DB1 (io) "Data I/O.", 3 DB0 (io) "DB0 is LSB.", 4 VDD (power) "Positive Supply for Analog Circuitry. This is +15 V nominal.", 5 VOUT (out) "DAC Output Voltage.", 6 RIN (in) "Input to Summing Resistor of DAC Output Amplifier. This is used to select output voltage ranges. See Table 6.", 7 VREF+ (in) "VREF+ Input. The DAC is specified for VREF+ = +5 V.", 8 VREF- (in) "VREF- Input. For unipolar operation connect VREF- to 0 V, and for bipolar operation connect it to -5 V. The device is specified for both conditions.", 9 VSS (power) "Negative Supply for the Analog Circuitry. This is -15 V nominal", 10 DB15 (io) "DB15 is MSB.", 11 DB14 (io) "Data I/O.", 12 DB13 (io) "Data I/O.", 13 DB12 (io) "Data I/O.", 14 DB11 (io) "Data I/O.", 15 DB10 (io) "Data I/O.", 16 DB9 (io) "Data I/O.", 17 DB8 (io) "Data I/O.", 18 DB7 (io) "Data I/O.", 19 DB6 (io) "Data I/O.", 20 DGND (power) "Ground for Digital Circuitry.", 21 VCC (power) "Positive Supply for Digital Circuitry. This is +5 V nominal.", 22 R/~{W} (in) "R/W\ Input. This pin can be used to load data to the DAC or to read back the DAC latch contents.", 23 ~{CS} (in) "Chip Select Input. This pin selects the device.", 24 ~{CLR} (in) "Clear Input. The DAC can be cleared to 000...000 or 100...000. See Table 7.", 25 ~{LDAC} (in) "Asynchronous Load Input to DAC.", 26 DB5 (io) "Data I/O.", 27 DB4 (io) "Data I/O.", 28 DB3 (io) "Data I/O."

## AD7847AN
designator U?
Dual 12-Bit LC2MOS Complete MDAC, -40 to +85 degC, N-24-1, Tube; Generic Part Number: AD7847; Manufacturer: Analog Devices; PartNumber: AD7847AN; # DAC Outputs: 2; Max V+: 15.75V; Op Pwr Diss: 210mW; Resolution (Bits): 12; Settling Time: 4µs; Single Supply: No; DatasheetVersion: C01007a-0-8/00 (rev. C); PackageVersion: 071006-A; PackageReference: N-24-1; PackageDescription: 24-Lead Plastic Dual In-Line Package [PDIP] Narrow Body; Supplier 1: Digi-Key; Supplier Part Number 1: AD7847AN-ND; Supplier 2: Mouser; Supplier Part Number 2: 584-AD7847AN; Packing: Tube; RoHS: N; Mounting Technology: Through Hole; Code_JEDEC: MS-001; ComponentLink1Description: Manufacturer URL; ComponentLink1URL: http://www.analog.com/en/index.html; ComponentLink2Description: Datasheet; ComponentLink2URL: http://www.analog.com/static/imported-files/data_sheets/AD7837_7847.pdf; ComponentLink3Description: Package Specification; ComponentLink3URL: http://www.analog.com/static/imported-files/packages/50726455539629N_24_1.pdf; ComponentLink4Description: Product URL; ComponentLink4URL: http://www.analog.com/en/digital-to-analog-converters/da-converters/ad7847/products/product.html
footprint N-24-1 (DIP, 24-Leads, Row Spacing 7.62mm, Pitch 2.54mm, Body 31.9x6.6mm)
pins: 1 ~{CSA} (in) "Chip Select Input for DAC A. Active low logic input. DAC A is selected when this input is low.", 2 ~{CSB} (in) "Chip Select Input for DAC B. Active low logic input. DAC B is selected when this input is low.", 3 VREFA (in) "Reference Input Voltage for DAC A. This may be an ac or dc signal.", 4 VOUTA (out) "Analog Output Voltage from DAC A.", 5 AGNDA (power) "Analog Ground for DAC A.", 6 VDD (power) "Positive Power Supply.", 7 VSS (power) "Negative Power Supply.", 8 AGNDB (power) "Analog Ground for DAC B.", 9 VOUTB (out) "Analog Output Voltage from DAC B.", 10 VREFB (in) "Reference Input Voltage for DAC B. This may be an ac or dc signal.", 11 DGND (power) "Digital Ground.", 12 DB11 (in) "Data Bit 11 (MSB).", 13 ~{WR} (in) "Write Input. W\R\ is a positive edge triggered input which is used in conjunction with C\S\A\ and C\S\B\ to write data to the DAC latches.", 14 DB10 (in) "Data Bit 10.", 15 DB9 (in) "Data Bit 9.", 16 DB8 (in) "Data Bit 8.", 17 DB7 (in) "Data Bit 7.", 18 DB6 (in) "Data Bit 6.", 19 DB5 (in) "Data Bit 5.", 20 DB4 (in) "Data Bit 4.", 21 DB3 (in) "Data Bit 3.", 22 DB2 (in) "Data Bit 2.", 23 DB1 (in) "Data Bit 1.", 24 DB0 (in) "Data Bit 0 (LSB)."

## AD7847ANZ
designator U?
Dual 12-Bit LC2MOS Complete MDAC, -40 to +85 degC, N-24-1, Pb-Free, Tube; Generic Part Number: AD7847; Manufacturer: Analog Devices; PartNumber: AD7847ANZ; # DAC Outputs: 2; Max V+: 15.75V; Op Pwr Diss: 210mW; Resolution (Bits): 12; Settling Time: 4µs; Single Supply: No; DatasheetVersion: C01007a-0-8/00 (rev. C); PackageVersion: 071006-A; PackageReference: N-24-1; PackageDescription: 24-Lead Plastic Dual In-Line Package [PDIP] Narrow Body; Supplier 1: Digi-Key; Supplier Part Number 1: AD7847ANZ-ND; Supplier 2: Farnell; Supplier Part Number 2: 1438627; Supplier 3: Newark; Supplier Part Number 3: 59K5660; Supplier 4: Mouser; Supplier Part Number 4: 584-AD7847ANZ; Packing: Tube; RoHS: Y; Mounting Technology: Through Hole; Code_JEDEC: MS-001; ComponentLink1Description: Manufacturer URL; ComponentLink1URL: http://www.analog.com/en/index.html; ComponentLink2Description: Datasheet; ComponentLink2URL: http://www.analog.com/static/imported-files/data_sheets/AD7837_7847.pdf; ComponentLink3Description: Package Specification; ComponentLink3URL: http://www.analog.com/static/imported-files/packages/50726455539629N_24_1.pdf; ComponentLink4Description: Product URL; ComponentLink4URL: http://www.analog.com/en/digital-to-analog-converters/da-converters/ad7847/products/product.html
footprint N-24-1 (DIP, 24-Leads, Row Spacing 7.62mm, Pitch 2.54mm, Body 31.9x6.6mm)
pins: 1 ~{CSA} (in) "Chip Select Input for DAC A. Active low logic input. DAC A is selected when this input is low.", 2 ~{CSB} (in) "Chip Select Input for DAC B. Active low logic input. DAC B is selected when this input is low.", 3 VREFA (in) "Reference Input Voltage for DAC A. This may be an ac or dc signal.", 4 VOUTA (out) "Analog Output Voltage from DAC A.", 5 AGNDA (power) "Analog Ground for DAC A.", 6 VDD (power) "Positive Power Supply.", 7 VSS (power) "Negative Power Supply.", 8 AGNDB (power) "Analog Ground for DAC B.", 9 VOUTB (out) "Analog Output Voltage from DAC B.", 10 VREFB (in) "Reference Input Voltage for DAC B. This may be an ac or dc signal.", 11 DGND (power) "Digital Ground.", 12 DB11 (in) "Data Bit 11 (MSB).", 13 ~{WR} (in) "Write Input. W\R\ is a positive edge triggered input which is used in conjunction with C\S\A\ and C\S\B\ to write data to the DAC latches.", 14 DB10 (in) "Data Bit 10.", 15 DB9 (in) "Data Bit 9.", 16 DB8 (in) "Data Bit 8.", 17 DB7 (in) "Data Bit 7.", 18 DB6 (in) "Data Bit 6.", 19 DB5 (in) "Data Bit 5.", 20 DB4 (in) "Data Bit 4.", 21 DB3 (in) "Data Bit 3.", 22 DB2 (in) "Data Bit 2.", 23 DB1 (in) "Data Bit 1.", 24 DB0 (in) "Data Bit 0 (LSB)."

## AD7847AQ
designator U?
Dual 12-Bit LC2MOS Complete MDAC, -40 to +85 degC, Q-24, Tube; Generic Part Number: AD7847; Manufacturer: Analog Devices; PartNumber: AD7847AQ; # DAC Outputs: 2; Max V+: 15.75V; Op Pwr Diss: 210mW; Resolution (Bits): 12; Settling Time: 4µs; Single Supply: No; DatasheetVersion: C01007a-0-8/00 (rev. C); PackageVersion: 2000; PackageReference: Q-24; PackageDescription: 24-Lead Ceramic Dual In-Line Package [CERDIP]; Supplier 1: Digi-Key; Supplier Part Number 1: AD7847AQ-ND; Supplier 2: Mouser; Supplier Part Number 2: 584-AD7847AQ; Packing: Tube; RoHS: N; Mounting Technology: Through Hole; ComponentLink1Description: Manufacturer URL; ComponentLink1URL: http://www.analog.com/en/index.html; ComponentLink2Description: Datasheet; ComponentLink2URL: http://www.analog.com/static/imported-files/data_sheets/AD7837_7847.pdf; ComponentLink3Description: Package Specification; ComponentLink3URL: http://www.analog.com/static/imported-files/data_sheets/AD7837_7847.pdf; ComponentLink4Description: Product URL; ComponentLink4URL: http://www.analog.com/en/digital-to-analog-converters/da-converters/ad7847/products/product.html
footprint Q-24 (DIP, 24-Leads, Row Spacing 7.62mm, Pitch 2.54mm, Body 31.9x6.7mm)
pins: 1 ~{CSA} (in) "Chip Select Input for DAC A. Active low logic input. DAC A is selected when this input is low.", 2 ~{CSB} (in) "Chip Select Input for DAC B. Active low logic input. DAC B is selected when this input is low.", 3 VREFA (in) "Reference Input Voltage for DAC A. This may be an ac or dc signal.", 4 VOUTA (out) "Analog Output Voltage from DAC A.", 5 AGNDA (power) "Analog Ground for DAC A.", 6 VDD (power) "Positive Power Supply.", 7 VSS (power) "Negative Power Supply.", 8 AGNDB (power) "Analog Ground for DAC B.", 9 VOUTB (out) "Analog Output Voltage from DAC B.", 10 VREFB (in) "Reference Input Voltage for DAC B. This may be an ac or dc signal.", 11 DGND (power) "Digital Ground.", 12 DB11 (in) "Data Bit 11 (MSB).", 13 ~{WR} (in) "Write Input. W\R\ is a positive edge triggered input which is used in conjunction with C\S\A\ and C\S\B\ to write data to the DAC latches.", 14 DB10 (in) "Data Bit 10.", 15 DB9 (in) "Data Bit 9.", 16 DB8 (in) "Data Bit 8.", 17 DB7 (in) "Data Bit 7.", 18 DB6 (in) "Data Bit 6.", 19 DB5 (in) "Data Bit 5.", 20 DB4 (in) "Data Bit 4.", 21 DB3 (in) "Data Bit 3.", 22 DB2 (in) "Data Bit 2.", 23 DB1 (in) "Data Bit 1.", 24 DB0 (in) "Data Bit 0 (LSB)."

## AD7847AR
designator U?
Dual 12-Bit LC2MOS Complete MDAC, -40 to +85 degC, RW-24, Tube; Generic Part Number: AD7847; Manufacturer: Analog Devices; PartNumber: AD7847AR; # DAC Outputs: 2; Max V+: 15.75V; Op Pwr Diss: 210mW; Resolution (Bits): 12; Settling Time: 4µs; Single Supply: No; DatasheetVersion: C01007a-0-8/00 (rev. C); PackageVersion: 060706-A; PackageReference: RW-24; PackageDescription: 24-Lead Standard Small Outline Package [SOIC_W]; Supplier 1: Digi-Key; Supplier Part Number 1: AD7847AR-ND; Supplier 2: Mouser; Supplier Part Number 2: 584-AD7847AR; Packing: Tube; RoHS: N; Mounting Technology: Surface Mount; Code_JEDEC: MS-013-AD; ComponentLink1Description: Manufacturer URL; ComponentLink1URL: http://www.analog.com/en/index.html; ComponentLink2Description: Datasheet; ComponentLink2URL: http://www.analog.com/static/imported-files/data_sheets/AD7837_7847.pdf; ComponentLink3Description: Package Specification; ComponentLink3URL: http://www.analog.com/static/imported-files/packages/33665150946139RW_24.pdf; ComponentLink4Description: Product URL; ComponentLink4URL: http://www.analog.com/en/digital-to-analog-converters/da-converters/ad7847/products/product.html
footprint RW-24_N (SOIC, 24-Leads, Body 15.4x7.5mm, Pitch 1.27mm, IPC Medium Density)
footprint RW-24_L (SOIC, 24-Leads, Body 15.4x7.5mm, Pitch 1.27mm, IPC High Density)
footprint RW-24_M (SOIC, 24-Leads, Body 15.4x7.5mm, Pitch 1.27mm, IPC Low Density)
pins: 1 ~{CSA} (in) "Chip Select Input for DAC A. Active low logic input. DAC A is selected when this input is low.", 2 ~{CSB} (in) "Chip Select Input for DAC B. Active low logic input. DAC B is selected when this input is low.", 3 VREFA (in) "Reference Input Voltage for DAC A. This may be an ac or dc signal.", 4 VOUTA (out) "Analog Output Voltage from DAC A.", 5 AGNDA (power) "Analog Ground for DAC A.", 6 VDD (power) "Positive Power Supply.", 7 VSS (power) "Negative Power Supply.", 8 AGNDB (power) "Analog Ground for DAC B.", 9 VOUTB (out) "Analog Output Voltage from DAC B.", 10 VREFB (in) "Reference Input Voltage for DAC B. This may be an ac or dc signal.", 11 DGND (power) "Digital Ground.", 12 DB11 (in) "Data Bit 11 (MSB).", 13 ~{WR} (in) "Write Input. W\R\ is a positive edge triggered input which is used in conjunction with C\S\A\ and C\S\B\ to write data to the DAC latches.", 14 DB10 (in) "Data Bit 10.", 15 DB9 (in) "Data Bit 9.", 16 DB8 (in) "Data Bit 8.", 17 DB7 (in) "Data Bit 7.", 18 DB6 (in) "Data Bit 6.", 19 DB5 (in) "Data Bit 5.", 20 DB4 (in) "Data Bit 4.", 21 DB3 (in) "Data Bit 3.", 22 DB2 (in) "Data Bit 2.", 23 DB1 (in) "Data Bit 1.", 24 DB0 (in) "Data Bit 0 (LSB)."